# EAGLE library part PINHD-1X8 (library foe-scale)
PIN HEADER
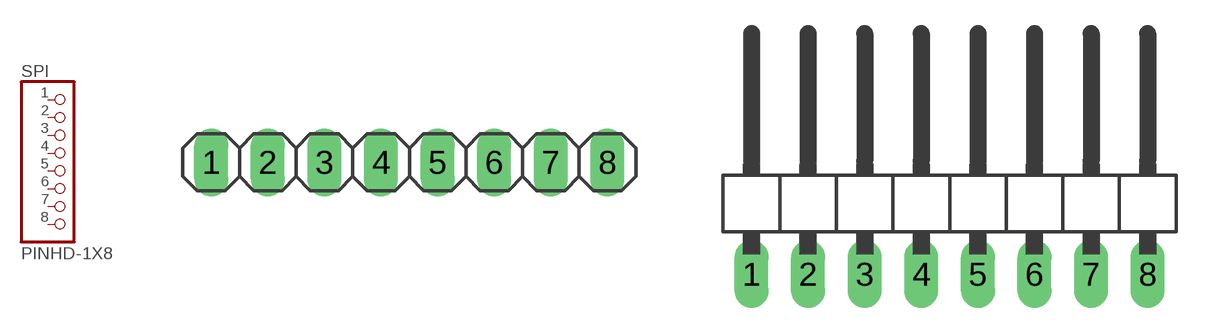
[diagram p5: symbol with the pads of 1X08; footprints 1X08, 1X08/90]

Designator prefix SPI

## PINHD-1X8  [1X08]
1  CS  pas
2  RST  pas
3  D/C  pas
4  CLK  pas
5  DATA  pas
6  VIN1  pas
7  VIN2  pas
8  GND  pas

## PINHD-1X8/90  [1X08/90]
Pads as for 1X08

## Footprint 1X08 (pad centres in mm)
PIN HEADER
drill 1.016 long: 1 -8.89,0; 2 -6.35,0; 3 -3.81,0; 4 -1.27,0; 5 1.27,0; 6 3.81,0; 7 6.35,0; 8 8.89,0

## Footprint 1X08/90 (pad centres in mm)
PIN HEADER
drill 1.016 long: 1 -8.89,-3.81; 2 -6.35,-3.81; 3 -3.81,-3.81; 4 -1.27,-3.81; 5 1.27,-3.81; 6 3.81,-3.81; 7 6.35,-3.81; 8 8.89,-3.81